# Altium schematic symbol library ACR Components.SchLib: 42 symbols
Pins are listed as number, name and electrical type; pins without a type are passive.

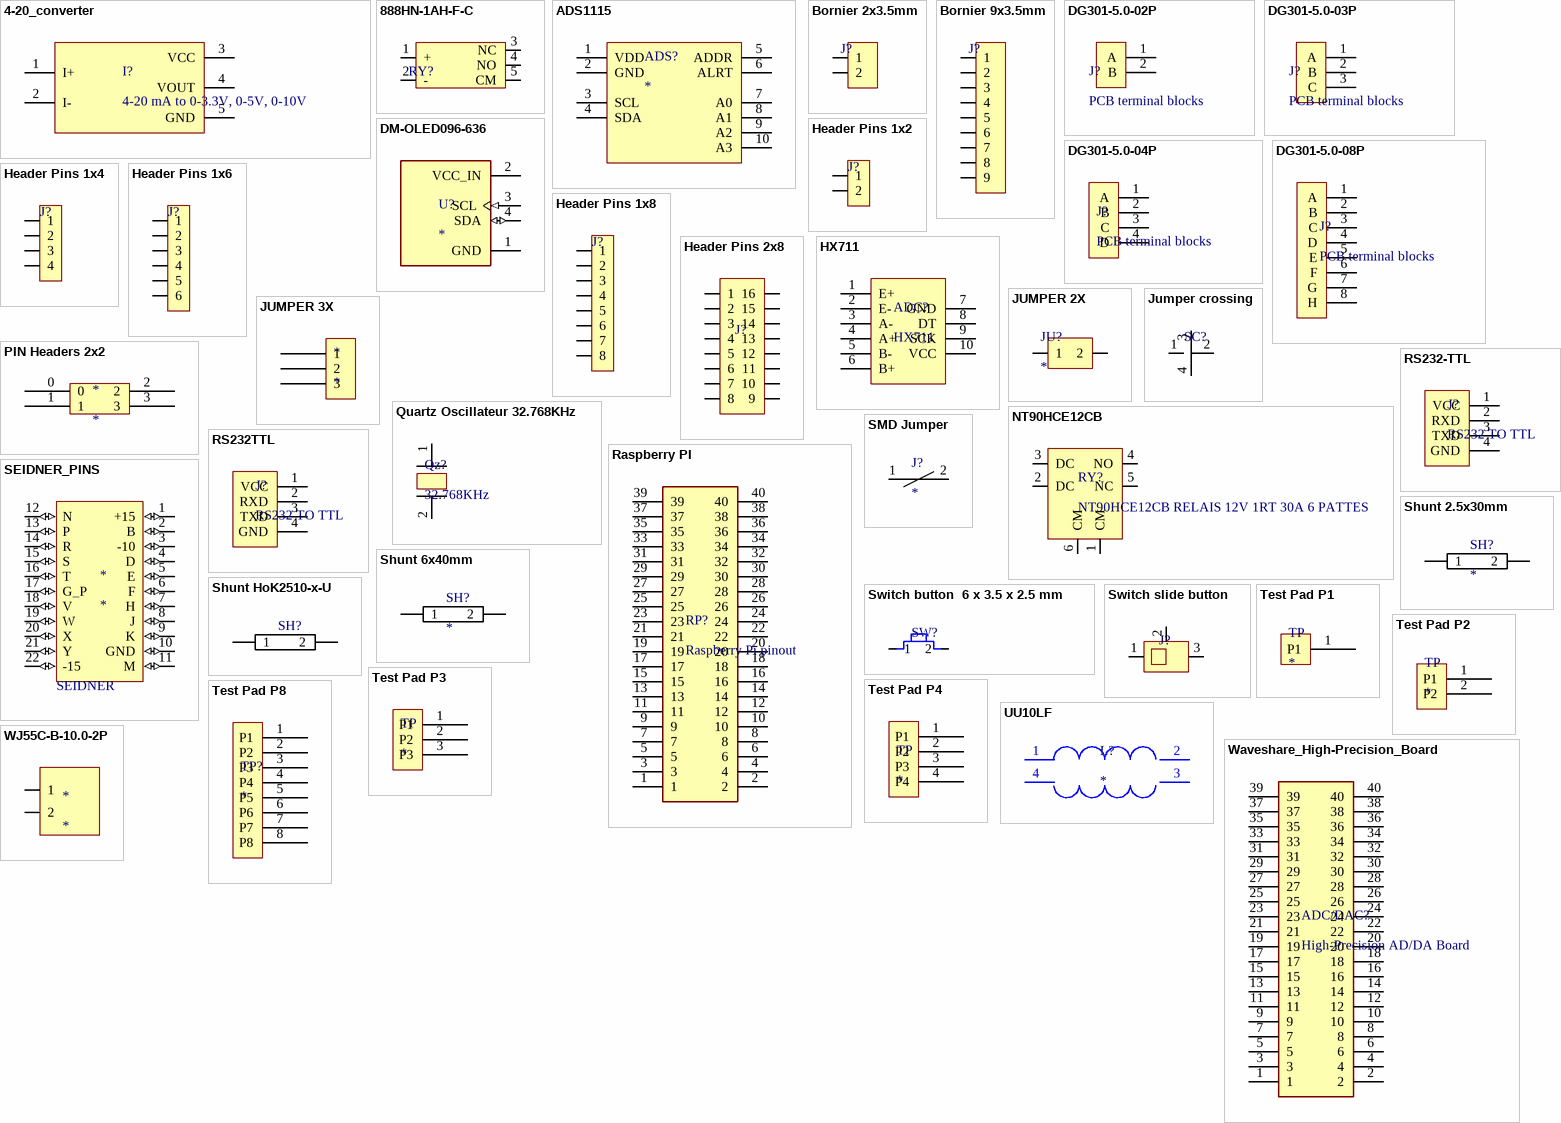
[diagram p0: symbols 4-20_converter to WJ55C-B-10.0-2P]

## 4-20_converter
designator I?, comment 4-20 mA to 0-3.3V, 0-5V, 0-10V
4-20 mA to 0-3.3V, 0-5V, 0-10V Signal Conversion Board, Converts 0/4-20 mA signals from devices to a voltage output.
footprint 4-20_converter (4-20 mA to 0-3.3V, 0-5V, 0-10V Signal Conversion Board)
pins: 1 I+, 2 I-, 3 VCC, 4 VOUT, 5 GND

## 888HN-1AH-F-C
designator RY?, comment Relay  (value not drawn)
footprint 888HN-1AH-F-C
pins: 1 +, 2 -, 3 NC, 4 NO, 5 CM

## ADS1115
designator ADS?
Ultra-Small, Low-Power, 16-Bit / Analog-to-Digital Converter with Internal Reference
footprint ADS1115 (16 bit Analog to digital converter)
pins: 1 VDD, 2 GND, 3 SCL, 4 SDA, 5 ADDR, 6 ALRT, 7 A0, 8 A1, 9 A2, 10 A3

## Bornier 2x3.5mm
designator J?  (value not drawn)
footprint Bornier 2x 3.5mm
pins: 1, 2

## Bornier 9x3.5mm
designator J?  (value not drawn)
footprint Bornier 9x 3.5mm
pins: 1, 2, 3, 4, 5, 6, 7, 8, 9

## DG301-5.0-02P
designator J?, comment PCB terminal blocks
PCB terminal blocks,Rated current:17.5A,Rated voltage （III/2）250V,Cross section:1.5mm²,pitch:5.0mm,connector method:screw connector with wire protection,Color:blue,Contact surface :Tin / colour
footprint DG301-5.0-02P (PCB terminal blocks)
pins: 1 A, 2 B

## DG301-5.0-03P
designator J?, comment PCB terminal blocks
PCB terminal blocks,Rated current:17.5A,Rated voltage （III/2）250V,Cross section:1.5mm²,pitch:5.0mm,connector method:screw connector with wire protection,Color:blue,Contact surface :Tin
footprint DG301-5.0-03P (PCB terminal blocks)
pins: 1 A, 2 B, 3 C

## DG301-5.0-04P
designator J?, comment PCB terminal blocks
PCB terminal blocks,Rated current:17.5A,Rated voltage （III/2）250V,Cross section:1.5mm²,pitch:5.0mm,connector method:screw connector with wire protection,Color:blue,Contact surface :Tin
footprint DG301-5.0-04P (PCB terminal blocks)
pins: 1 A, 2 B, 3 C, 4 D

## DG301-5.0-08P
designator J?, comment PCB terminal blocks
PCB terminal blocks,Rated current:17.5A,Rated voltage （III/2）250V,Cross section:1.5mm²,pitch:5.0mm,connector method:screw connector with wire protection,Color:blue,Contact surface :Tin
footprint DG301-5.0-08P (PCB terminal blocks)
pins: 1 A, 2 B, 3 C, 4 D, 5 E, 6 F, 7 G, 8 H

## DM-OLED096-636
designator U?
0.96â€ 128 X 64 MONOCHROME GRAPHIC OLED DISPLAY MODULE - I2C; MP: DM-OLED096-636; SnapEDA_Link: https://www.snapeda.com/parts/DM-OLED096-636/Display+Module/view-part/?ref=snap; Package: Package; Value: *; MF: Display Module; Check_prices: https://www.snapeda.com/parts/DM-OLED096-636/Display+Module/view-part/?ref=eda
footprint MODULE_DM-OLED096-636
pins: 1 GND (power), 2 VCC_IN (power), 3 SCL (in), 4 SDA (io)

## Header Pins 1x2
designator J?, comment Header Pins  (value not drawn)
footprint HEADER PIN 1x2
pins: 1, 2

## Header Pins 1x4
designator J?, comment Header Pins  (value not drawn)
footprint HEADER PIN 1x4
pins: 1, 2, 3, 4

## Header Pins 1x6
designator J?, comment Header Pins  (value not drawn)
footprint HEADER PIN 1x6
pins: 1, 2, 3, 4, 5, 6

## Header Pins 1x8
designator J?, comment Header Pins  (value not drawn)
footprint HEADER PIN 1x8
pins: 1, 2, 3, 4, 5, 6, 7, 8

## Header Pins 2x8
designator J?, comment Header Pins  (value not drawn)
footprint HEADER PIN 2x8
pins: 1, 2, 3, 4, 5, 6, 7, 8, 9, 10, 11, 12, 13, 14, 15, 16

## HX711
designator ADC?
HX711 Strain Gauge Amplifier Module With Round Pin/Socket Headers
footprint HX711 (HX711 Strain Gauge Amplifier Module With Round Pin/Socket Headers)
pins: 1 E+, 2 E-, 3 A-, 4 A+, 5 B-, 6 B+, 7 GND, 8 DT, 9 SCK, 10 VCC

## JUMPER 2X
designator JU?
footprint JUMPER 2X
pins: 1, 2

## JUMPER 3X
designator *
footprint JUMPER 3X
pins: 1, 2, 3

## Jumper crossing
designator SC?, comment Jumper Terminal crossing  (value not drawn)
footprint Jumper street crossing
pins: 1, 2, 3, 4

## NT90HCE12CB
designator RY?, comment NT90HCE12CB RELAIS 12V 1RT 30A 6 PATTES
https://www.orbit-dz.com/product/t90-1z-nt90hce12cb-relais-12v-1rt-30a/
footprint NT90HCE12CB (NT90HCE12CB RELAIS 12V 1RT 30A 6 PATTES)
pins: 1 CM, 2 DC, 3 DC, 4 NO, 5 NC, 6 CM

## PIN Headers 2x2
designator *
footprint PIN Headers 2x2
pins: 0, 1, 2, 3

## Quartz Oscillateur 32.768KHz
designator Qz?, comment 32.768KHz
footprint Quartz 32.768KHZ
pins: 1, 2

## Raspberry PI
designator RP?, comment Raspberry Pi pinout
footprint Raspberry PI
pins: 1, 2, 3, 4, 5, 6, 7, 8, 9, 10, 11, 12, 13, 14, 15, 16, 17, 18, 19, 20, 21, 22, 23, 24, 25, 26, 27, 28, 29, 30, 31, 32, 33, 34, 35, 36, 37, 38, 39, 40

## RS232-TTL
designator J?, comment RS232 TO TTL
RS232 to TTL Serial Converter / This is a MAX3232-based level shifter for converting TTL-level serial to standard RS-232 serial. This will allow a microcontroller to communicate with a computer.
footprint RS232-TTL (RS232 to TTL Serial Converter  This is a MAX3232-based level shifter for converting TTL-level serial to standard RS-232 serial. This will allow a microcontroller to communicate with a computer)
pins: 1 VCC, 2 RXD, 3 TXD, 4 GND

## RS232TTL
designator J?, comment RS232 TO TTL
RS232 to TTL Serial Converter / This is a MAX3232-based level shifter for converting TTL-level serial to standard RS-232 serial. This will allow a microcontroller to communicate with a computer.
footprint RS232-TTL (RS232 to TTL Serial Converter  This is a MAX3232-based level shifter for converting TTL-level serial to standard RS-232 serial. This will allow a microcontroller to communicate with a computer)
pins: 1 VCC, 2 RXD, 3 TXD, 4 GND

## SEIDNER_PINS
designator *
footprint SEIDNER_PINS
pins: 1 +15 (io), 2 B (io), 3 -10 (io), 4 D (io), 5 E (io), 6 F (io), 7 H (io), 8 J (io), 9 K (io), 10 GND (io), 11 M (io), 12 N (io), 13 P (io), 14 R (io), 15 S (io), 16 T (io), 17 G_P (io), 18 V (io), 19 W (io), 20 X (io), 21 Y (io), 22 -15 (io)
text: SEIDNER

## Shunt 2.5x30mm
designator SH?
footprint Shunt 2.5x30mm
pins: 1, 2

## Shunt 6x40mm
designator SH?
footprint Shunt 6x40mm
pins: 1, 2

## Shunt HoK2510-x-U
designator SH?, comment Current Sensing Resistors  (value not drawn)
HoK2510-2-U / HoK2510-5-U
footprint HoK2510-2-U (Resistors/Chip Resistor - Surface Mount)
footprint HoK2510-5-U (Resistors/Chip Resistor - Surface Mount)
pins: 1, 2

## SMD Jumper
designator J?
footprint PCB Jumper SMD
pins: 1, 2

## Switch button  6 x 3.5 x 2.5 mm
designator SW?, comment Switch button 6 x 3.5 x 2.5 mm  (value not drawn)
footprint Switch button  6 x 3.5 x 2.5 mm (Interrupteur tactile Wurth Elektronik CMS, SPST, 6 x 3.5 x 2.5mm)
pins: 1, 2

## Switch slide button
designator J?, comment /ss-12d02-vg4  (value not drawn)
footprint Switch button (SS12D02-VG4)
pins: 1, 2, 3

## Test Pad P1
designator TP
footprint Test Pad 1
pins: 1 P1

## Test Pad P2
designator TP
footprint Test Pad 2
pins: 1 P1, 2 P2

## Test Pad P3
designator TP
footprint Test Pad 3
pins: 1 P1, 2 P2, 3 P3

## Test Pad P4
designator TP
footprint Test Pad 4
pins: 1 P1, 2 P2, 3 P3, 4 P4

## Test Pad P8
designator TP?
footprint Test Pad 8
pins: 1 P1, 2 P2, 3 P3, 4 P4, 5 P5, 6 P6, 7 P7, 8 P8

## UU10LF
designator L?
Filtre mode commun Lineaire
footprint UU10LF (Filtre mode commun Lineaire)
pins: 1, 2, 3, 4

## Waveshare_High-Precision_Board
designator ADC/DAC?, comment High-Precision AD/DA Board
footprint Waveshare_High-Precision_Board
pins: 1, 2, 3, 4, 5, 6, 7, 8, 9, 10, 11, 12, 13, 14, 15, 16, 17, 18, 19, 20, 21, 22, 23, 24, 25, 26, 27, 28, 29, 30, 31, 32, 33, 34, 35, 36, 37, 38, 39, 40

## WJ55C-B-10.0-2P
designator *
footprint WJ55C-B-10.0-2P (Bornier)
pins: 1, 2

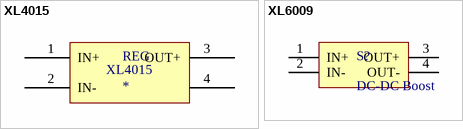
[diagram p1: symbols XL4015 to XL6009]

## XL4015
designator REG
footprint XL4015 (DC-DC Boost Step Down)
pins: 1 IN+, 2 IN-, 3 OUT+, 4 OUT-

## XL6009
designator S?, comment DC-DC Boost
Adjustable Step Up Boost Converter Module Output 4A -Y103
footprint XL6009 (DC-DC Boost)
pins: 1 IN+, 2 IN-, 3 OUT+, 4 OUT-